# EAGLE library part NRF52832_CI (library Nordic_nRF)
nRF52832 Features Single chip, highly flexible, 2.4 GHz multi-protocol SoC 32-bit ARM Cortex-M4F Processor 1.7v to 3.6v operation 512kB flash + 64kB RAM Supports concurrent Bluetooth Smart/ANT protocol operation On-chip NFC tag for Out-of-Band (OOB) pairing Up to +4dBm output power -96dBm sensitivity, Bluetooth Smart Thread safe and run-time protected Event driven API On air compatible with nRF24L and nRF24AP series 2 data rates (2Mbps/1Mbps) PPI - maximum flexibility for power-efficient applications and code simplification Automated power management system with automatic power management of each peripheral Configurable I/O mapping for analog and digital I/O 3 x Master/Slave SPI 2 x Two-wire interface (I²C) UART (RTS/CTS) 3 x PWM AES HW encryption Real Time Counter (RTC) Digital microphone interface (PDM) On-chip balun Applications Internet of Things (IoT) Wearables SmartHome sensors Connected white goods Computer peripherals Voice-command smart remotes A4WP ‘Rezence’ wireless charging Beacons Sports and fitness sensors and hubs Connected health products Smart watches RC Toys Interactive games Building automation and sensor networks
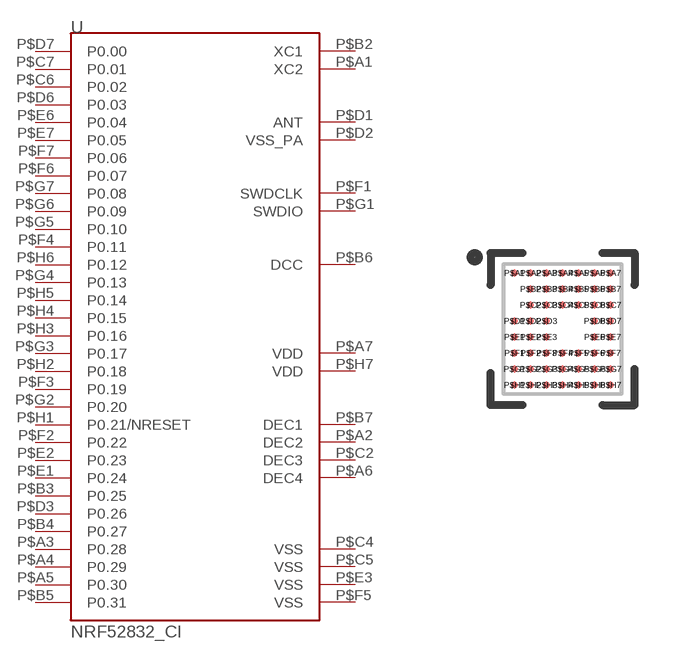
[diagram p4: symbol with the pads of CIAA_WLCSP_C62_N; footprint CIAA_WLCSP_C62_N]

Designator prefix -

## NRF52832_CI  [CIAA_WLCSP_C62_N]
P$A1  XC2
P$A2  DEC2  pwr
P$A3  P0.28
P$A4  P0.29
P$A5  P0.30
P$A6  DEC4  pwr
P$A7  VDD  pwr
P$B2  XC1
P$B3  P0.25
P$B4  P0.27
P$B5  P0.31
P$B6  DCC  pwr
P$B7  DEC1  pwr
P$C2  DEC3  pwr
P$C4  VSS  pwr
P$C5  VSS  pwr
P$C6  P0.02
P$C7  P0.01
P$D1  ANT
P$D2  VSS_PA
P$D3  P0.26
P$D6  P0.03
P$D7  P0.00
P$E1  P0.24
P$E2  P0.23
P$E3  VSS  pwr
P$E6  P0.04
P$E7  P0.05
P$F1  SWDCLK  in
P$F2  P0.22
P$F3  P0.19
P$F4  P0.11
P$F5  VSS  pwr
P$F6  P0.07
P$F7  P0.06
P$G1  SWDIO
P$G2  P0.20
P$G3  P0.17
P$G4  P0.13
P$G5  P0.10
P$G6  P0.09
P$G7  P0.08
P$H1  P0.21/NRESET
P$H2  P0.18
P$H3  P0.16
P$H4  P0.15
P$H5  P0.14
P$H6  P0.12
P$H7  VDD  pwr

## Footprint CIAA_WLCSP_C62_N (pad centres in mm)
CIAA WLCSP package
smd 0.18 x 0.18: P$A1 -1.2,1.4; P$A2 -0.8,1.4; P$A3 -0.4,1.4; P$A4 0,1.4; P$A5 0.4,1.4; P$A6 0.8,1.4; P$A7 1.2,1.4; P$B2 -0.8,1; P$B3 -0.4,1; P$B4 0,1; P$B5 0.4,1; P$B6 0.8,1; P$B7 1.2,1; P$C2 -0.8,0.6; P$C3 -0.4,0.6; P$C4 0,0.6; P$C5 0.4,0.6; P$C6 0.8,0.6; P$C7 1.2,0.6; P$D1 -1.2,0.2; P$D2 -0.8,0.2; P$D3 -0.4,0.2; P$D6 0.8,0.2; P$D7 1.2,0.2; P$E1 -1.2,-0.2; P$E2 -0.8,-0.2; P$E3 -0.4,-0.2; P$E6 0.8,-0.2; P$E7 1.2,-0.2; P$F1 -1.2,-0.6; P$F2 -0.8,-0.6; P$F3 -0.4,-0.6; P$F4 0,-0.6; P$F5 0.4,-0.6; P$F6 0.8,-0.6; P$F7 1.2,-0.6; P$G1 -1.2,-1; P$G2 -0.8,-1; P$G3 -0.4,-1; P$G4 0,-1; P$G5 0.4,-1; P$G6 0.8,-1; P$G7 1.2,-1; P$H1 -1.2,-1.4; P$H2 -0.8,-1.4; P$H3 -0.4,-1.4; P$H4 0,-1.4; P$H5 0.4,-1.4; P$H6 0.8,-1.4; P$H7 1.2,-1.4